# Altium integrated library Motorola Interface Line Driver.IntLib: 5 symbols
Pins are listed as number, name and electrical type; pins without a type are passive.

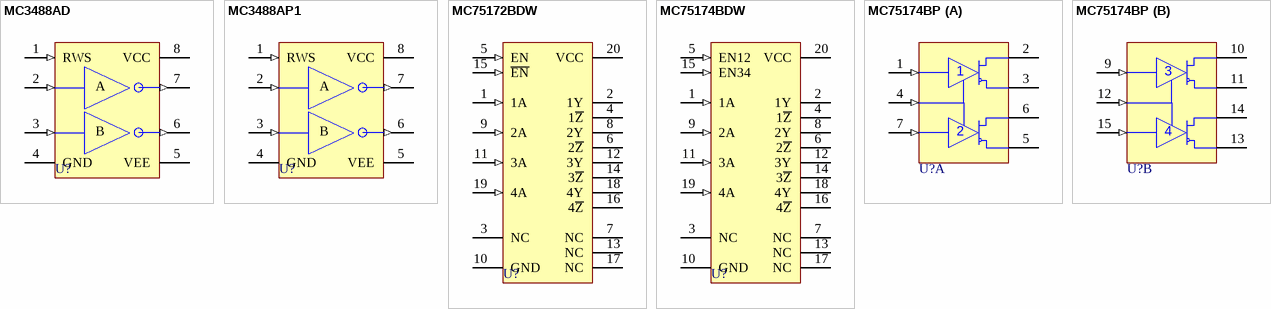
[diagram p0: symbols MC3488AD to MC75174BP]

## MC3488AD
designator U?
Dual EIA-423/EIA-232D Line Driver; Published: 17-Jul-2002; LatestRevisionDate: 13-Apr-2006; LatestRevisionNote: IPC-7351 Footprint Added.; DatasheetVersion: 1996; PackageVersion: 1996; PackageReference: 751-05; Publisher: Altium Limited; PackageDescription: 8-Pin Small Outline Integrated Circuit 1.27 mm Pitch; Code_JEDEC: MS-012-AA; Code_IPC: SOIC127P600-8; ComponentLink1Description: Manufacturer Link; ComponentLink1URL: http://www.onsemi.com/site/products/parametrics/0,4446,178,00.html; ComponentLink2Description: Datasheet; ComponentLink2URL: http://www.onsemi.com/pub/Collateral/MC3488A-D.PDF
footprint 751-05_N (SOIC, 8-Leads, Body 4.9x3.9mm, Pitch 1.27mm, IPC Medium Density)
footprint 751-05_L (SOIC, 8-Leads, Body 4.9x3.9mm, Pitch 1.27mm, IPC High Density)
footprint 751-05_M (SOIC, 8-Leads, Body 4.9x3.9mm, Pitch 1.27mm, IPC Low Density)
3D model 751-05 (8-Pin Small Outline Integrated Circuit 1.27 mm Pitch)
pins: 1 RWS (in), 2 IN (in), 3 IN (in), 4 GND (power), 5 VEE (power), 6 OUT (out), 7 OUT (out), 8 VCC (power)
text: A; B

## MC3488AP1
designator U?
Dual EIA-423/EIA-232D Line Driver; Published: 17-Jul-2002; LatestRevisionDate: 06-Jun-2005; LatestRevisionNote: Stylized 3D Model Added.; DatasheetVersion: 1996; PackageReference: 626-05; Publisher: Altium Limited; PackageDescription: DIP; 8 Leads; Row Spacing 7.62 mm; Pitch 2.54 mm; ComponentLink1Description: Manufacturer Link; ComponentLink1URL: http://www.onsemi.com/site/products/parametrics/0,4446,178,00.html; ComponentLink2Description: Datasheet; ComponentLink2URL: http://www.onsemi.com/pub/Collateral/MC3488A-D.PDF
footprint 626-05 (DIP; 8 Leads; Row Spacing 7.62 mm; Pitch 2.54 mm)
3D model 626-05 (DIP; 8 Leads; Row Spacing 7.62 mm; Pitch 2.54 mm)
pins: 1 RWS (in), 2 IN (in), 3 IN (in), 4 GND (power), 5 VEE (power), 6 OUT (out), 7 OUT (out), 8 VCC (power)
text: A; B

## MC75172BDW
designator U?
Quad EIA-485 Line Driver with 3-State Output; Published: 17-Jul-2002; LatestRevisionDate: 13-Apr-2006; LatestRevisionNote: IPC-7351 Footprint Added.; DatasheetVersion: 1996; PackageReference: 751D-04; Publisher: Altium Limited; PackageDescription: 20-Pin Small Outline Integrated Circuit 1.27 mm Pitch; ComponentLink1Description: Manufacturer Link; ComponentLink1URL: http://www.onsemi.com/site/products/parametrics/0,4446,178,00.html; ComponentLink2Description: Datasheet; ComponentLink2URL: http://www.onsemi.com/pub/Collateral/MC75172B-D.PDF
footprint 751D-04_N (SOIC, 20-Leads, Body 12.8x7.5mm, Pitch 1.27mm, IPC Medium Density)
footprint 751D-04_L (SOIC, 20-Leads, Body 12.8x7.5mm, Pitch 1.27mm, IPC High Density)
footprint 751D-04_M (SOIC, 20-Leads, Body 12.8x7.5mm, Pitch 1.27mm, IPC Low Density)
3D model 751D-04 (20-Pin Small Outline Integrated Circuit 1.27 mm Pitch)
pins: 1 1A (in), 2 1Y (hiz), 3 NC, 4 1~{Z} (hiz), 5 EN (in), 6 2~{Z} (hiz), 7 NC, 8 2Y (hiz), 9 2A (in), 10 GND (power), 11 3A (in), 12 3Y (hiz), 13 NC, 14 3~{Z} (hiz), 15 ~{EN} (in), 16 4~{Z} (hiz), 17 NC, 18 4Y (hiz), 19 4A (in), 20 VCC (power)

## MC75174BDW
designator U?
Quad EIA-485 Line Driver with 3-State Output; Published: 17-Jul-2002; LatestRevisionDate: 13-Apr-2006; LatestRevisionNote: IPC-7351 Footprint Added.; DatasheetVersion: 1996; PackageReference: 751D-04; Publisher: Altium Limited; PackageDescription: 20-Pin Small Outline Integrated Circuit 1.27 mm Pitch; ComponentLink1Description: Manufacturer Link; ComponentLink1URL: http://www.onsemi.com/site/products/parametrics/0,4446,178,00.html; ComponentLink2Description: Datasheet; ComponentLink2URL: http://www.onsemi.com/pub/Collateral/MC75172B-D.PDF
footprint 751D-04_N (SOIC, 20-Leads, Body 12.8x7.5mm, Pitch 1.27mm, IPC Medium Density)
footprint 751D-04_L (SOIC, 20-Leads, Body 12.8x7.5mm, Pitch 1.27mm, IPC High Density)
footprint 751D-04_M (SOIC, 20-Leads, Body 12.8x7.5mm, Pitch 1.27mm, IPC Low Density)
3D model 751D-04 (20-Pin Small Outline Integrated Circuit 1.27 mm Pitch)
pins: 1 1A (in), 2 1Y (hiz), 3 NC, 4 1~{Z} (hiz), 5 EN12 (in), 6 2~{Z} (hiz), 7 NC, 8 2Y (hiz), 9 2A (in), 10 GND (power), 11 3A (in), 12 3Y (hiz), 13 NC, 14 3~{Z} (hiz), 15 EN34 (in), 16 4~{Z} (hiz), 17 NC, 18 4Y (hiz), 19 4A (in), 20 VCC (power)

## MC75174BP
designator U?
Quad EIA-485 Line Driver with 3-State Output; Published: 17-Jul-2002; LatestRevisionDate: 18-Aug-2005; LatestRevisionNote: Zero-Radius Arc removed from Sch.; DatasheetVersion: 1996; PackageReference: 648-08; Publisher: Altium Limited; PackageDescription: DIP; 16 Leads; Row Spacing 7.62 mm; Pitch 2.54 mm; Code_JEDEC: MS-001-BB; ComponentLink1Description: Manufacturer Link; ComponentLink1URL: http://www.onsemi.com/site/products/parametrics/0,4446,178,00.html; ComponentLink2Description: Datasheet; ComponentLink2URL: http://www.onsemi.com/pub/Collateral/MC75172B-D.PDF
footprint 648-08 (DIP; 16 Leads; Row Spacing 7.62 mm; Pitch 2.54 mm)
3D model 648-08 (DIP; 16 Leads; Row Spacing 7.62 mm; Pitch 2.54 mm)
pins on every part: 8 GND (power) hidden to GND, 16 VCC (power) hidden to VCC
part A pins: 1 1A (in), 2 1Y (hiz), 3 1~{Z} (hiz), 4 EN (in), 5 2~{Z} (hiz), 6 2Y (hiz), 7 2A (in)
part B pins: 9 3A (in), 10 3Y (hiz), 11 3~{Z} (hiz), 12 EN (in), 13 4~{Z} (hiz), 14 4Y (hiz), 15 4A (in)